# Altium schematic symbol library Schlib1.SchLib: 11 symbols
Pins are listed as number, name and electrical type; pins without a type are passive.

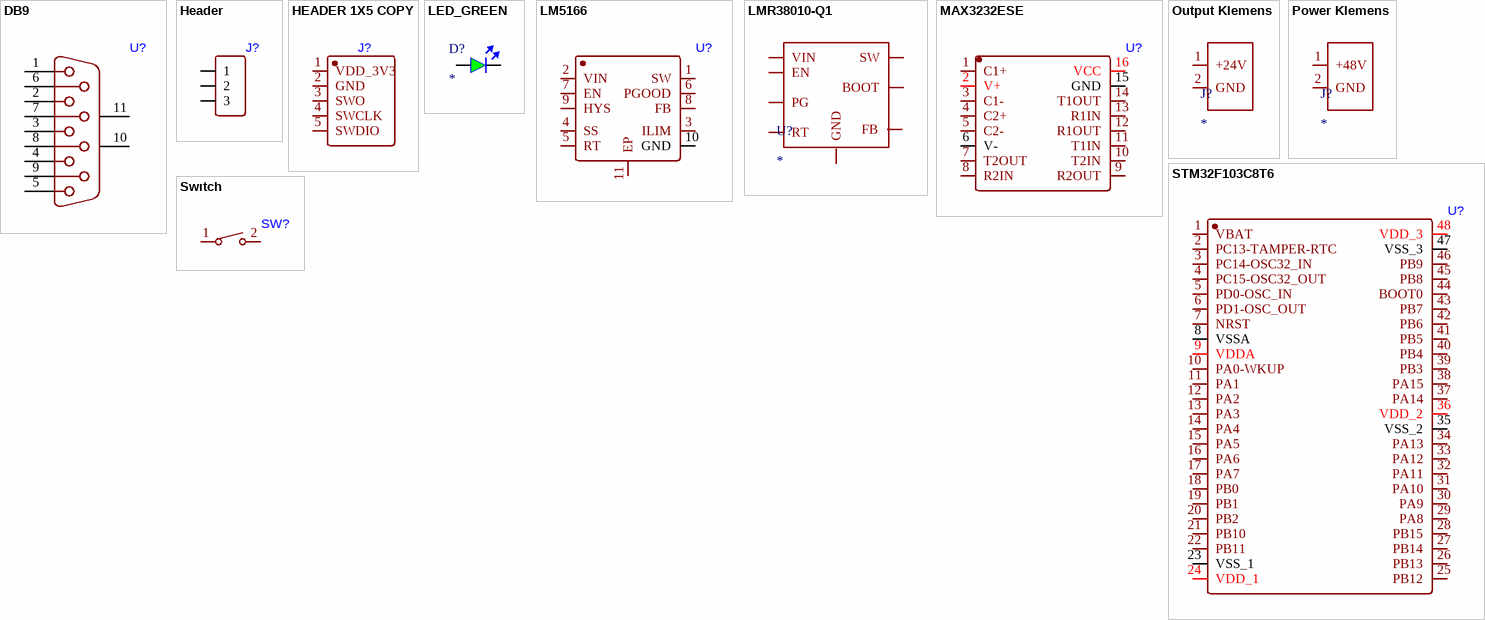
[diagram p0: symbols DB9 to Swıtch]

## DB9
designator U?
footprint DB9-TH_DB9F_C5164093
pins: 1, 2, 3, 4, 5, 6, 7, 8, 9, 10 MH1, 11 MH2

## Header
designator J?
footprint HDR-TH_3P-P2.54-V-M-1
pins: 1, 2, 3

## HEADER 1X5 COPY
designator J?
footprint 1X5-PIN-HEADER-2.54MM_ES
pins: 1 VDD_3V3, 2 GND, 3 SWO, 4 SWCLK, 5 SWDIO

## LED_GREEN
designator D?
footprint LED_GREEN
pins: 1 IN, 2 OUT

## LM5166
designator U?
footprint VSON-10_L3.0-W3.0-P0.50-TL-EP-1
pins: 1 SW, 2 VIN, 3 ILIM, 4 SS, 5 RT, 6 PGOOD, 7 EN, 8 FB, 9 HYS, 10 GND, 11 EP

## LMR38010-Q1
designator U?
footprint LMR38010-Q1
pins: 1 GND, 2 EN, 3 VIN, 4 RT, 5 FB, 6 PG, 7 BOOT, 8 SW

## MAX3232ESE
designator U?
footprint SOP-16_L9.9-W3.9-P1.27-LS6.0-BL
pins: 1 C1+, 2 V+, 3 C1-, 4 C2+, 5 C2-, 6 V-, 7 T2OUT, 8 R2IN, 9 R2OUT, 10 T2IN, 11 T1IN, 12 R1OUT, 13 R1IN, 14 T1OUT, 15 GND, 16 VCC

## Output Klemens
designator J?
footprint PCBComponent_1
pins: 1 +24V, 2 GND

## Power Klemens
designator J?
footprint PCBComponent_1
pins: 1 +48V, 2 GND

## STM32F103C8T6
designator U?
footprint UFQFPN-48_STM32
pins: 1 VBAT, 2 PC13-TAMPER-RTC, 3 PC14-OSC32_IN, 4 PC15-OSC32_OUT, 5 PD0-OSC_IN, 6 PD1-OSC_OUT, 7 NRST, 8 VSSA, 9 VDDA, 10 PA0-WKUP, 11 PA1, 12 PA2, 13 PA3, 14 PA4, 15 PA5, 16 PA6, 17 PA7, 18 PB0, 19 PB1, 20 PB2, 21 PB10, 22 PB11, 23 VSS_1, 24 VDD_1, 25 PB12, 26 PB13, 27 PB14, 28 PB15, 29 PA8, 30 PA9, 31 PA10, 32 PA11, 33 PA12, 34 PA13, 35 VSS_2, 36 VDD_2, 37 PA14, 38 PA15, 39 PB3, 40 PB4, 41 PB5, 42 PB6, 43 PB7, 44 BOOT0, 45 PB8, 46 PB9, 47 VSS_3, 48 VDD_3

## Swıtch
designator SW?
footprint SW-SMD_L4.0-W3.0-LS5.0
pins: 1, 2